# EAGLE library part LORA1276_BOTTOM (library lora1276)
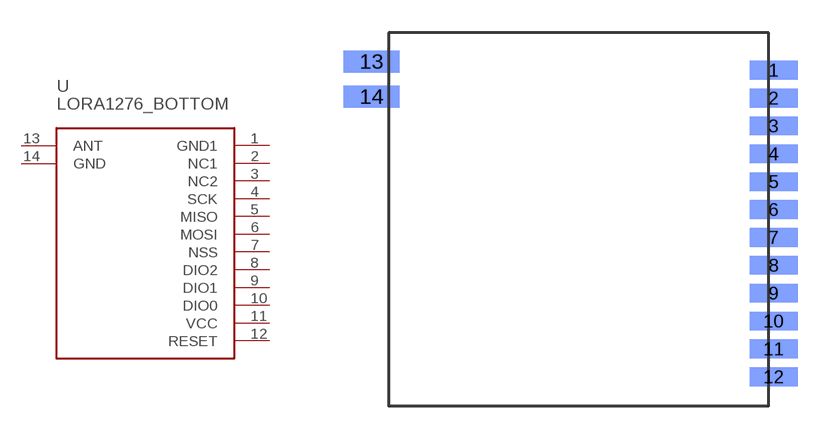
[diagram p1: symbol with the pads of LORA1276_BOTTOM; footprint LORA1276_BOTTOM]

Designator prefix -

## LORA1276_BOTTOM  [LORA1276_BOTTOM]
1  GND1  pwr
2  NC1  nc
3  NC2  nc
4  SCK  in
5  MISO  out
6  MOSI  in
7  NSS  in
8  DIO2
9  DIO1
10  DIO0
11  VCC  pwr
12  RESET  in
13  ANT  in
14  GND  pwr

## Footprint LORA1276_BOTTOM (pad centres in mm)
smd 2.184 x 0.85 bottom: 1 17.526,0; 2 17.526,-1.27; 3 17.526,-2.54; 4 17.526,-3.81; 5 17.526,-5.08; 6 17.526,-6.35; 7 17.526,-7.62; 8 17.526,-8.89; 9 17.526,-10.16; 10 17.526,-11.43; 11 17.526,-12.7; 12 17.526,-13.97
smd 2.54 x 1 bottom: 13 -0.78,0.4; 14 -0.78,-1.2